# Altium footprint library MCU20N06BHE3TP.PcbLib: 1 footprints
Each footprint in its own frame and in the unit in brackets; x right, y up, seen from the top. Pads: shape width x height; smd on the part's side, far side on the other; paste and mask are expansions set on the pad; w line width, h text height; cw(c..) or ccw(c..) is an arc to the next point about the centre after c.
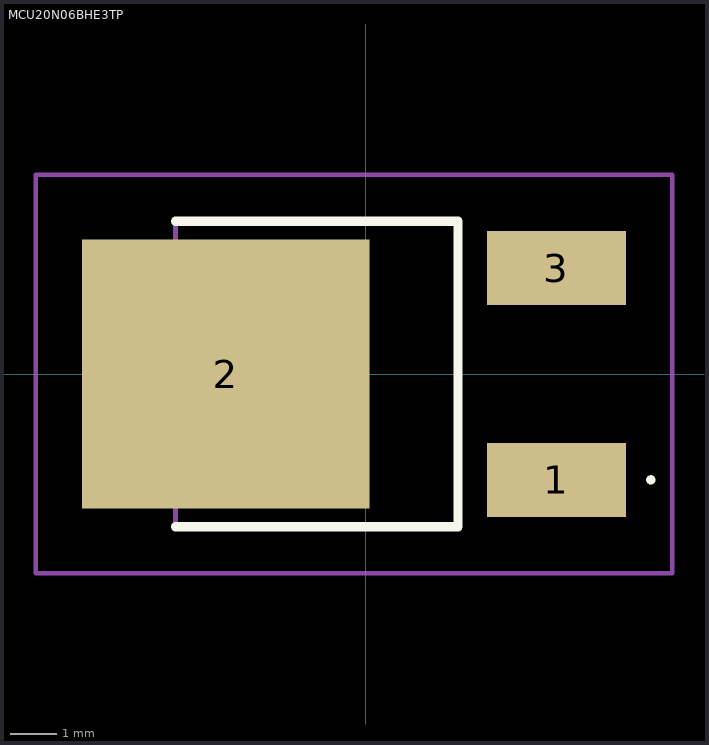
[diagram p0: the footprint, top view; thin cyan lines are the x and y axes]

## MCU20N06BHE3TP [mm]
pads (3):
  rect 3x1.6 smd: 1(4.112,-2.285) 3(4.112,2.285)
  rect 6.2x5.8 smd: 2(-3.027,0)
Top Overlay:
  lines w0.1: 6.1,-2.285 6.1,-2.285 ; 6.1,-2.285 ccw(c6.15,-2.285) 6.2,-2.285 ; 6.1,-2.285 cw(c6.15,-2.285) 6.2,-2.285 ; 6.2,-2.285 6.2,-2.285
  lines w0.2: -4.112,-3.3 1.987,-3.3 1.987,3.3 -4.112,3.3
Mechanical 15:
  lines w0.1: -4.112,-3.3 1.987,-3.3 1.987,3.3 -4.112,3.3 -4.112,-3.3
Mechanical 20:
  lines w0.1: -7.128,-4.3 6.612,-4.3 6.612,4.3 -7.128,4.3 -7.128,-4.3